# Altium schematic symbol library UK_Library_SCH.SchLib: 87 symbols (part 2 of 2)
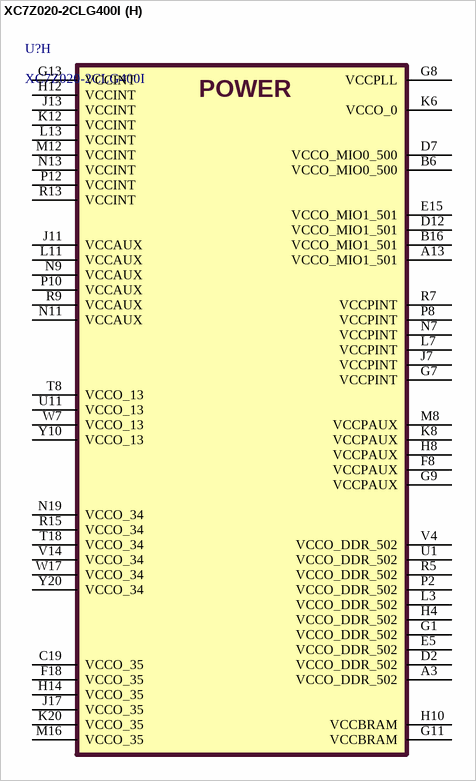
[diagram p5: symbol XC7Z020-2CLG400I]

## XC7Z020-2CLG400I
designator U?
Dual ARM® Cortex®-A9 MPCore™ with CoreSight™ System On Chip (SOC) IC Zynq®-7000 Artix™-7 FPGA, 85K Logic Cells 766MHz 400-CSPBGA (17x17); Manufacturer: AMD/XILINX; MPN: XC7Z020-2CLG400I; ComponentLink1Description: Datasheet; ComponentLink1URL: https://docs.amd.com/v/u/en-US/ds190-Zynq-7000-Overview; ComponentLink2Description: DC and AC Switching Characteristics; ComponentLink2URL: https://docs.amd.com/v/u/en-US/ds187-XC7Z010-XC7Z020-Data-Sheet; ComponentLink3Description: PCB Design Guide; ComponentLink3URL: https://docs.amd.com/v/u/en-US/ug933-Zynq-7000-PCB; ComponentLink4Description: Packaging and Pinout; ComponentLink4URL: https://docs.amd.com/v/u/en-US/ug865-Zynq-7000-Pkg-Pinout; ComponentLink5Description: Zynq 7000 SoC Technical Reference Manual; ComponentLink5URL: https://docs.amd.com/r/en-US/ug585-zynq-7000-SoC-TRM
footprint BGA400C80P20X20_1700X1700X147 (BGA, 400-Leads, Body 17,00x17,00mmx1,47mm, Pitch 0,80mm)
part A pins: F6 TDO_0, F9 TCK_0, F10 RSVDGND (power), F11 VCCBATT_0 (power), G6 TDI_0, J6 TMS_0, J9 VCCADC_0 (power), J10 GNDADC_0 (power), K9 VP_0 (in), K10 VREFN_0 (in), L6 PROGRAM_B_0, L9 VREFP_0 (in), L10 VN_0 (in), M6 CFGBVS_0 (in), M9 DXP_0 (in), M10 DXN_0 (in), N6 RSVDVCC3 (power), R6 RSVDVCC2 (power), R10 INIT_B_0, R11 DONE_0, T6 RSVDVCC1 (power)
part B pins: T5 IO_L19P_T3_13 (oc), T9 IO_L12P_T1_MRCC_13 (oc), U5 IO_L19N_T3_VREF_13 (oc), U7 IO_L11P_T1_SRCC_13 (oc), U8 IO_L17N_T2_13 (oc), U9 IO_L17P_T2_13 (oc), U10 IO_L12N_T1_MRCC_13 (oc), V5 IO_L6N_T0_VREF_13 (oc), V6 IO_L22P_T3_13 (oc), V7 IO_L11N_T1_SRCC_13 (oc), V8 IO_L15P_T2_DQS_13 (oc), V10 IO_L21N_T3_DQS_13 (oc), V11 IO_L21P_T3_DQS_13 (oc), W6 IO_L22N_T3_13 (oc), W8 IO_L15N_T2_DQS_13 (oc), W9 IO_L16N_T2_13 (oc), W10 IO_L16P_T2_13 (oc), W11 IO_L18P_T2_13 (oc), Y6 IO_L13N_T2_MRCC_13 (oc), Y7 IO_L13P_T2_MRCC_13 (oc), Y8 IO_L14N_T2_SRCC_13 (oc), Y9 IO_L14P_T2_SRCC_13 (oc), Y11 IO_L18N_T2_13 (oc), Y12 IO_L20P_T3_13 (oc), Y13 IO_L20N_T3_13 (oc)
part C pins: N17 IO_L23P_T3_34, N18 IO_L13P_T2_MRCC_34, N20 IO_L14P_T2_SRCC_34, P14 IO_L6P_T0_34, P15 IO_L24P_T3_34, P16 IO_L24N_T3_34, P18 IO_L23N_T3_34, P19 IO_L13N_T2_MRCC_34, P20 IO_L14N_T2_SRCC_34, R14 IO_L6N_T0_VREF_34, R16 IO_L19P_T3_34, R17 IO_L19N_T3_VREF_34, R18 IO_L20N_T3_34, R19 IO_0_34, T10 IO_L1N_T0_34, T11 IO_L1P_T0_34, T12 IO_L2P_T0_34, T14 IO_L5P_T0_34, T15 IO_L5N_T0_34, T16 IO_L9P_T1_DQS_34, T17 IO_L20P_T3_34, T19 IO_25_34, T20 IO_L15P_T2_DQS_34, U12 IO_L2N_T0_34, U13 IO_L3P_T0_DQS_PUDC_B_34, U14 IO_L11P_T1_SRCC_34, U15 IO_L11N_T1_SRCC_34, U17 IO_L9N_T1_DQS_34, U18 IO_L12P_T1_MRCC_34, U19 IO_L12N_T1_MRCC_34, U20 IO_L15N_T2_DQS_34, V12 IO_L4P_T0_34, V13 IO_L3N_T0_DQS_34, V15 IO_L10P_T1_34, V16 IO_L18P_T2_34, V17 IO_L21P_T3_DQS_34, V18 IO_L21N_T3_DQS_34, V20 IO_L16P_T2_34, W13 IO_L4N_T0_34, W14 IO_L8P_T1_34, W15 IO_L10N_T1_34, W16 IO_L18N_T2_34, W18 IO_L22P_T3_34, W19 IO_L22N_T3_34, W20 IO_L16N_T2_34, Y14 IO_L8N_T1_34, Y16 IO_L7P_T1_34, Y17 IO_L7N_T1_34, Y18 IO_L17P_T2_34, Y19 IO_L17N_T2_34
part D pins: A20 IO_L2N_T0_AD8N_35, B19 IO_L2P_T0_AD8P_35, B20 IO_L1N_T0_AD0N_35, C20 IO_L1P_T0_AD0P_35, D18 IO_L3N_T0_DQS_AD1N_35, D19 IO_L4P_T0_35, D20 IO_L4N_T0_35, E17 IO_L3P_T0_DQS_AD1P_35, E18 IO_L5P_T0_AD9P_35, E19 IO_L5N_T0_AD9N_35, F16 IO_L6P_T0_35, F17 IO_L6N_T0_VREF_35, F19 IO_L15P_T2_DQS_AD12P_35, F20 IO_L15N_T2_DQS_AD12N_35, G14 IO_0_35, G15 IO_L19N_T3_VREF_35, G17 IO_L16P_T2_35, G18 IO_L16N_T2_35, G19 IO_L18P_T2_AD13P_35, G20 IO_L18N_T2_AD13N_35, H15 IO_L19P_T3_35, H16 IO_L13P_T2_MRCC_35, H17 IO_L13N_T2_MRCC_35, H18 IO_L14N_T2_AD4N_SRCC_35, H20 IO_L17N_T2_AD5N_35, J14 IO_L20N_T3_AD6N_35, J15 IO_25_35, J16 IO_L24N_T3_AD15N_35, J18 IO_L14P_T2_AD4P_SRCC_35, J19 IO_L10N_T1_AD11N_35, J20 IO_L17P_T2_AD5P_35, K14 IO_L20P_T3_AD6P_35, K16 IO_L24P_T3_AD15P_35, K17 IO_L12P_T1_MRCC_35, K18 IO_L12N_T1_MRCC_35, K19 IO_L10P_T1_AD11P_35, L14 IO_L22P_T3_AD7P_35, L15 IO_L22N_T3_AD7N_35, L16 IO_L11P_T1_SRCC_35, L17 IO_L11N_T1_SRCC_35, L19 IO_L9P_T1_DQS_AD3P_35, L20 IO_L9N_T1_DQS_AD3N_35, M14 IO_L23P_T3_35, M15 IO_L23N_T3_35, M17 IO_L8P_T1_AD10P_35, M18 IO_L8N_T1_AD10N_35, M19 IO_L7P_T1_AD2P_35, M20 IO_L7N_T1_AD2N_35, N15 IO_L21P_T3_DQS_AD14P_35, N16 IO_L21N_T3_DQS_AD14N_35
part E pins: A5 PS_MIO6_500 (io), A6 PS_MIO5_500 (io), A7 PS_MIO1_500 (io), A9 PS_MIO43_501 (io), A10 PS_MIO37_501 (io), A11 PS_MIO36_501 (io), A12 PS_MIO34_501 (io), A14 PS_MIO32_501 (io), A15 PS_MIO26_501 (io), A16 PS_MIO24_501 (io), A17 PS_MIO20_501 (io), A19 PS_MIO16_501 (io), B5 PS_MIO9_500 (io), B7 PS_MIO4_500 (io), B8 PS_MIO2_500 (io), B9 PS_MIO51_501 (io), B10 PS_SRST_B_501 (in), B12 PS_MIO48_501 (io), B13 PS_MIO50_501 (io), B14 PS_MIO47_501 (io), B15 PS_MIO45_501 (io), B17 PS_MIO22_501 (io), B18 PS_MIO18_501 (io), C5 PS_MIO14_500 (io), C6 PS_MIO11_500 (io), C7 PS_POR_B_500 (in), C8 PS_MIO15_500 (io), C10 PS_MIO52_501 (io), C11 PS_MIO53_501 (io), C12 PS_MIO49_501 (io), C13 PS_MIO29_501 (io), C15 PS_MIO30_501 (io), C16 PS_MIO28_501 (io), C17 PS_MIO41_501 (io), C18 PS_MIO39_501 (io), D5 PS_MIO8_500 (io), D6 PS_MIO3_500 (io), D8 PS_MIO7_500 (io), D9 PS_MIO12_500 (io), D10 PS_MIO19_501 (io), D11 PS_MIO23_501 (io), D13 PS_MIO27_501 (io), D14 PS_MIO40_501 (io), D15 PS_MIO33_501 (io), D16 PS_MIO46_501 (io), E6 PS_MIO0_500 (io), E7 PS_CLK_500 (in), E8 PS_MIO13_500 (io), E9 PS_MIO10_500 (io), E11 PS_MIO_VREF_501 (in), E12 PS_MIO42_501 (io), E13 PS_MIO38_501 (io), E14 PS_MIO17_501 (io), E16 PS_MIO31_501 (io), F12 PS_MIO35_501 (io), F13 PS_MIO44_501 (io), F14 PS_MIO21_501 (io), F15 PS_MIO25_501 (io)
part F pins: A1 PS_DDR_DM0_502 (out), A2 PS_DDR_DQ2_502 (io), A4 PS_DDR_DQ3_502 (io), B2 PS_DDR_DQS_N0_502 (io), B3 PS_DDR_DQ1_502 (io), B4 PS_DDR_DRST_B_502 (out), C1 PS_DDR_DQ6_502 (io), C2 PS_DDR_DQS_P0_502 (io), C3 PS_DDR_DQ0_502 (io), D1 PS_DDR_DQ5_502 (io), D3 PS_DDR_DQ4_502 (io), D4 PS_DDR_A13_502 (out), E1 PS_DDR_DQ7_502 (io), E2 PS_DDR_DQ8_502 (io), E3 PS_DDR_DQ9_502 (io), E4 PS_DDR_A12_502 (out), F1 PS_DDR_DM1_502 (out), F2 PS_DDR_DQS_N1_502 (io), F4 PS_DDR_A14_502 (out), F5 PS_DDR_A10_502 (out), G2 PS_DDR_DQS_P1_502 (io), G3 PS_DDR_DQ10_502 (io), G4 PS_DDR_A11_502 (out), G5 PS_DDR_VRN_502 (out), H1 PS_DDR_DQ14_502 (io), H2 PS_DDR_DQ13_502 (io), H3 PS_DDR_DQ11_502 (io), H5 PS_DDR_VRP_502 (out), H6 PS_DDR_VREF0_502 (in), J1 PS_DDR_DQ15_502 (io), J3 PS_DDR_DQ12_502 (io), J4 PS_DDR_A9_502 (out), J5 PS_DDR_BA2_502 (out), K1 PS_DDR_A8_502 (out), K2 PS_DDR_A1_502 (out), K3 PS_DDR_A3_502 (out), K4 PS_DDR_A7_502 (out), L1 PS_DDR_A5_502 (out), L2 PS_DDR_CKP_502 (out), L4 PS_DDR_A6_502 (out), L5 PS_DDR_BA0_502 (out), M2 PS_DDR_CKN_502 (out), M3 PS_DDR_A2_502 (out), M4 PS_DDR_A4_502 (out), M5 PS_DDR_WE_B_502 (out), N1 PS_DDR_CS_B_502 (out), N2 PS_DDR_A0_502 (out), N3 PS_DDR_CKE_502 (out), N5 PS_DDR_ODT_502 (out), P1 PS_DDR_DQ16_502 (io), P3 PS_DDR_DQ17_502 (io), P4 PS_DDR_RAS_B_502 (out), P5 PS_DDR_CAS_B_502 (out), P6 PS_DDR_VREF1_502 (in), R1 PS_DDR_DQ19_502 (io), R2 PS_DDR_DQS_P2_502 (io), R3 PS_DDR_DQ18_502 (io), R4 PS_DDR_BA1_502 (out), T1 PS_DDR_DM2_502 (out), T2 PS_DDR_DQS_N2_502 (io), T4 PS_DDR_DQ20_502 (io), U2 PS_DDR_DQ22_502 (io), U3 PS_DDR_DQ23_502 (io), U4 PS_DDR_DQ21_502 (io), V1 PS_DDR_DQ24_502 (io), V2 PS_DDR_DQ30_502 (io), V3 PS_DDR_DQ31_502 (io), W1 PS_DDR_DQ26_502 (io), W3 PS_DDR_DQ29_502 (io), W4 PS_DDR_DQS_N3_502 (io), W5 PS_DDR_DQS_P3_502 (io), Y1 PS_DDR_DM3_502 (out), Y2 PS_DDR_DQ28_502 (io), Y3 PS_DDR_DQ25_502 (io), Y4 PS_DDR_DQ27_502 (io)
part G pins: A8 GND (power), A18 GND (power), B1 GND (power), B11 GND (power), C4 GND (power), C9 GND (power), C14 GND (power), D17 GND (power), E10 GND (power), E20 GND (power), F3 GND (power), F7 GND (power), G10 GND (power), G12 GND (power), G16 GND (power), H7 GND (power), H9 GND (power), H11 GND (power), H13 GND (power), H19 GND (power), J2 GND (power), J8 GND (power), J12 GND (power), K5 GND (power), K7 GND (power), K11 GND (power), K13 GND (power), K15 GND (power), L8 GND (power), L12 GND (power), L18 GND (power), M1 GND (power), M7 GND (power), M11 GND (power), M13 GND (power), N4 GND (power), N8 GND (power), N10 GND (power), N12 GND (power), N14 GND (power), P7 GND (power), P9 GND (power), P11 GND (power), P13 GND (power), P17 GND (power), R8 GND (power), R12 GND (power), R20 GND (power), T3 GND (power), T7 GND (power), T13 GND (power), U6 GND (power), U16 GND (power), V9 GND (power), V19 GND (power), W2 GND (power), W12 GND (power), Y5 GND (power), Y15 GND (power)
part H pins: A3 VCCO_DDR_502 (power), A13 VCCO_MIO1_501 (power), B6 VCCO_MIO0_500 (power), B16 VCCO_MIO1_501 (power), C19 VCCO_35 (power), D2 VCCO_DDR_502 (power), D7 VCCO_MIO0_500 (power), D12 VCCO_MIO1_501 (power), E5 VCCO_DDR_502 (power), E15 VCCO_MIO1_501 (power), F8 VCCPAUX (power), F18 VCCO_35 (power), G1 VCCO_DDR_502 (power), G7 VCCPINT (power), G8 VCCPLL (power), G9 VCCPAUX (power), G11 VCCBRAM (power), G13 VCCINT (power), H4 VCCO_DDR_502 (power), H8 VCCPAUX (power), H10 VCCBRAM (power), H12 VCCINT (power), H14 VCCO_35 (power), J7 VCCPINT (power), J11 VCCAUX (power), J13 VCCINT (power), J17 VCCO_35 (power), K6 VCCO_0 (power), K8 VCCPAUX (power), K12 VCCINT (power), K20 VCCO_35 (power), L3 VCCO_DDR_502 (power), L7 VCCPINT (power), L11 VCCAUX (power), L13 VCCINT (power), M8 VCCPAUX (power), M12 VCCINT (power), M16 VCCO_35 (power), N7 VCCPINT (power), N9 VCCAUX (power), N11 VCCAUX (power), N13 VCCINT (power), N19 VCCO_34 (power), P2 VCCO_DDR_502 (power), P8 VCCPINT (power), P10 VCCAUX (power), P12 VCCINT (power), R5 VCCO_DDR_502 (power), R7 VCCPINT (power), R9 VCCAUX (power), R13 VCCINT (power), R15 VCCO_34 (power), T8 VCCO_13 (power), T18 VCCO_34 (power), U1 VCCO_DDR_502 (power), U11 VCCO_13 (power), V4 VCCO_DDR_502 (power), V14 VCCO_34 (power), W7 VCCO_13 (power), W17 VCCO_34 (power), Y10 VCCO_13 (power), Y20 VCCO_34 (power)
part A text: CONFIG BANK 0
part B text: BANK 13
part C text: BANK 34
part D text: BANK 35
part E text: BANK 500/501
part F text: BANK 502 DDR
part H text: POWER